# Altium schematic symbol library Sch_Antennas.SchLib: 1 symbol
Pins are listed as number, name and electrical type; pins without a type are passive.

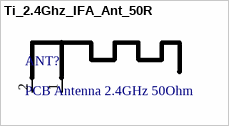
[diagram p0: symbol Ti_2.4Ghz_IFA_Ant_50R]

## Ti_2.4Ghz_IFA_Ant_50R
designator ANT?, comment PCB Antenna 2.4GHz 50Ohm
Inverted F 2.4 GHz ISM PCB Antenna 50 Ohm
footprint TI_2G4HZ
pins: 1 RF, 2 GND